# Altium schematic symbol library SCH - LOGO - LAGENFESNSTER 8.Schlib: 1 symbol
Pins are listed as number, name and electrical type; pins without a type are passive.

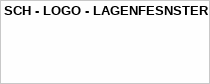
[diagram p0: symbol SCH - LOGO - LAGENFESNSTER 8]

## SCH - LOGO - LAGENFESNSTER 8
designator Logo?  (no BOM)